# Altium footprint library eth_bridge_v2_pcb.PcbLib: 33 footprints (part 1 of 3)
Each footprint in its own frame and in the unit in brackets; x right, y up, seen from the top. Pads: shape width x height; smd on the part's side, far side on the other; paste and mask are expansions set on the pad; w line width, h text height; cw(c..) or ccw(c..) is an arc to the next point about the centre after c.
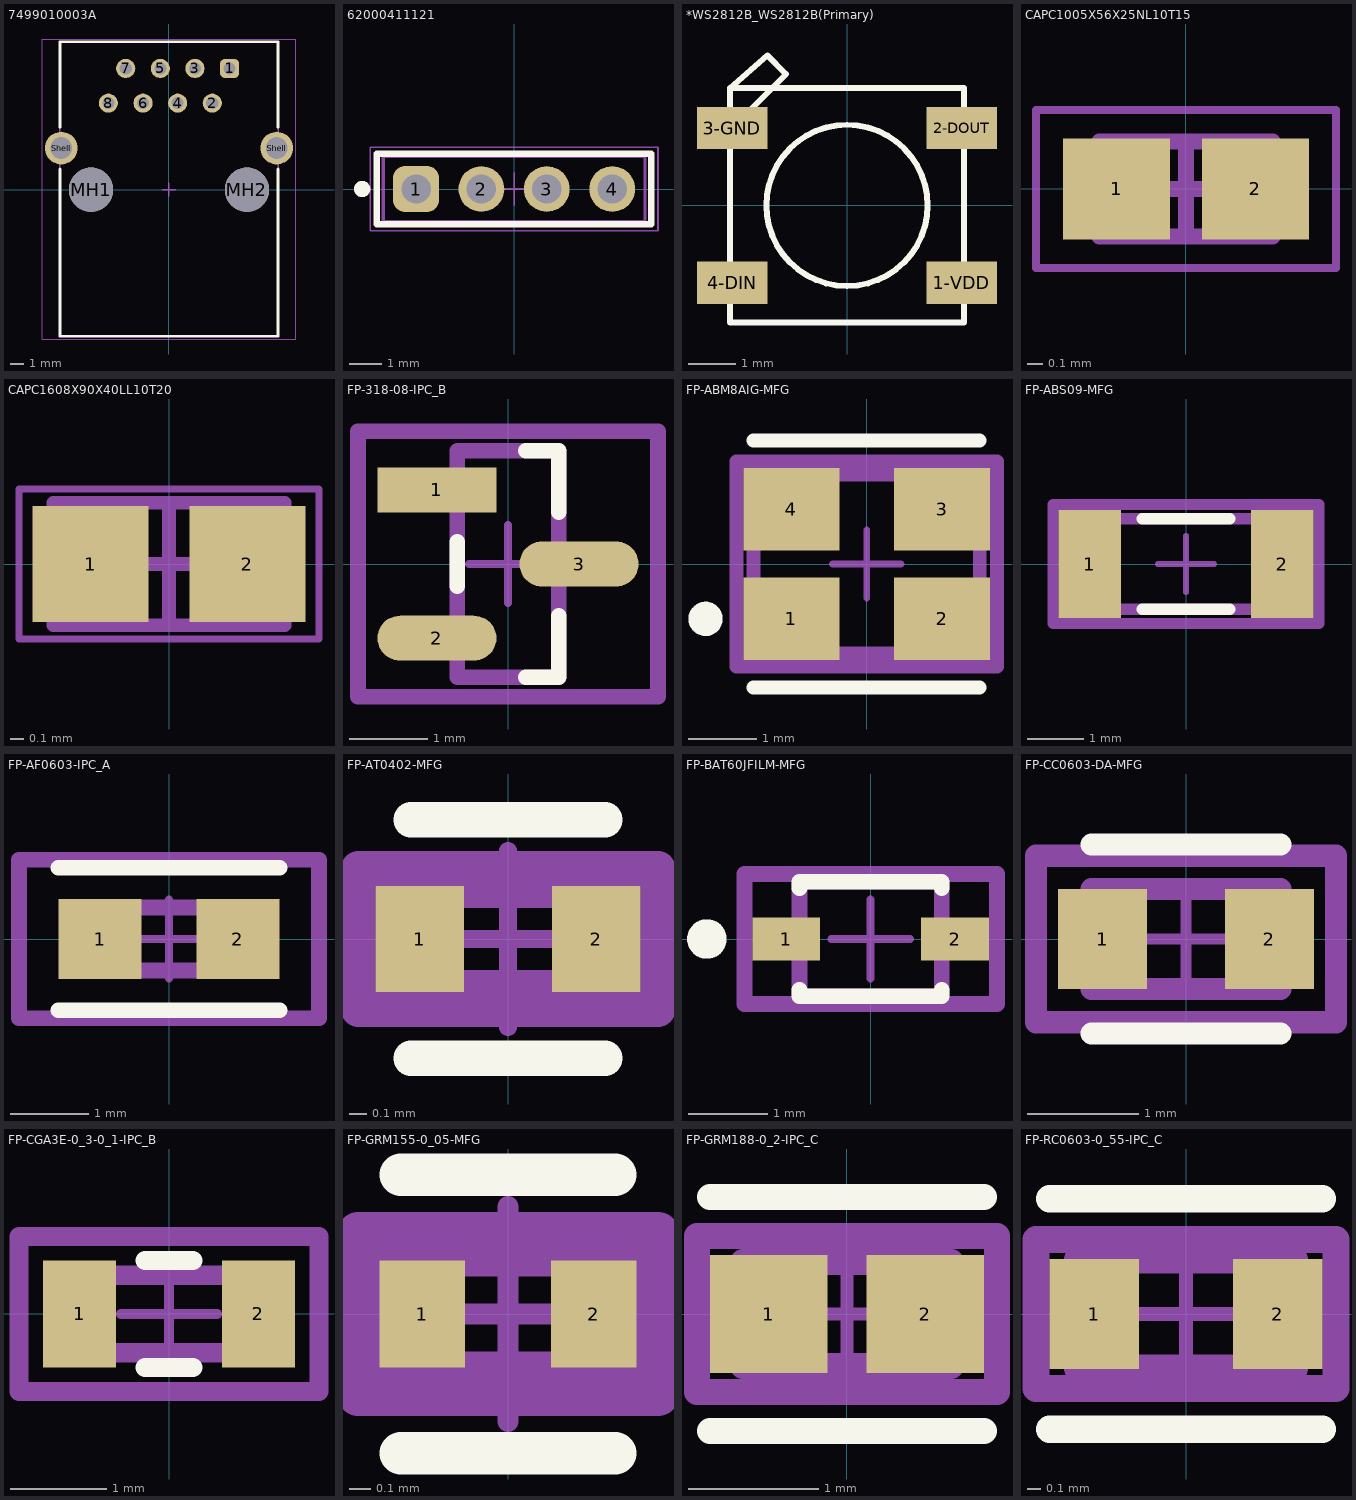
[diagram p0: the footprints below, top view; thin cyan lines are the x and y axes]

## 7499010003A [mm] "LAN Transformer, body 21.84x16.13mm"
height 13.74
pads (12):
  rrect50% 1.4x1.4 hole 0.89: 1(4.445,8.89)
  round 1.4 hole 0.89: 2(3.175,6.35) 3(1.905,8.89) 4(0.635,6.35) 5(-0.635,8.89) 6(-1.905,6.35) 7(-3.175,8.89) 8(-4.445,6.35)
  round 3.25 hole 3.25 unplated: MH1(-5.715,0) MH2(5.715,0)
  round 2.4 hole 1.6: Shell(-7.9,3.05) Shell(7.9,3.05)
Top Overlay:
  lines w0.2: -8,1.52 -8,-10.75 8,-10.75 8,1.52 ; -8,4.58 -8,10.85 8,10.85 8,4.58
Top Assembly:
  lines w0.1: -8,-10.75 -8,10.85 8,10.85 8,-10.75 -8,-10.75
Top Designator:
  text ".Designator" at -3.647,-0.357 h1
Top 3D Body:
  lines w0.1: -8,-10.75 -8,10.85 8,10.85 8,-10.75 -8,-10.75
Top Courtyard:
  lines w0.05: -9.3,-10.95 9.3,-10.95 9.3,11.05 -9.3,11.05 -9.3,-10.95
Top Component Center:
  lines w0.1: -0.5,0 0.5,0 ; 0,-0.5 0,0.5
3D body "7499010003A.stp": height 13.72, standoff -2.88, extent -8.1,-10.75 8.1,10.85

## 62000411121 [mm] "Pin Header, pitch 2.00 mm, THT, Vertical, single row, 4p"
height 6.35
pads (4):
  rrect50% 1.4x1.4 hole 0.9: 1(-3,0)
  round 1.4 hole 0.9: 2(-1,0) 3(1,0) 4(3,0)
Top Overlay:
  circle w0.25: c-4.65,0 r0.125
  lines w0.2: -4.2,-1.075 -4.2,1.075 4.2,1.075 4.2,-1.075 -4.2,-1.075
Top Component Outline:
  lines w0.1: -4,-1 -4,1 4,1 4,-1 -4,-1
Top Designator:
  text ".Designator" at -5.998,-0.4 h1.2
Top Courtyard:
  lines w0.05: -4.4,-1.275 -4.4,1.275 4.4,1.275 4.4,-1.275 -4.4,-1.275
Top Component Center:
  lines w0.05: -0.5,0 0.5,0 ; 0,-0.5 0,0.5
3D body "62000411121.stp": height 6.05, standoff -2.65, extent -4,-1 4,1

## *WS2812B_WS2812B(Primary) [mm]
pads (4):
  rect 1.5x0.9 smd: 1-VDD(2.45,-1.65) 2-DOUT(2.45,1.65) 3-GND(-2.45,1.65) 4-DIN(-2.45,-1.65)
Top Overlay:
  circle w0.127: c0,0 r1.72
  lines w0.127: -2.5,1.6 -2.5,-2.5 2.5,-2.5 2.5,2.5 -1.6,2.5 ; -2.5,1.6 -2.5,2.5 ; -2.5,1.6 -1.6,2.5 ; -2.5,2.5 -1.6,2.5 ; -2.5,2.5 -1.7,3.2 -1.3,2.8 -1.6,2.5
3D body "WS2812B--3DModel-STEP-55780.STEP": height 1.56, standoff -0.01, extent -2.7,-2.5 2.7,2.5

## CAPC1005X56X25NL10T15 [mm] "Chip Capacitor, 2-Leads, Body 1.00x0.50mm, IPC Medium Density"
height 0.56
pads (2):
  rect 0.68x0.64 smd: 1(-0.44,0) 2(0.44,0)
Top 3D Body:
  lines w0.1: -0.55,-0.3 0.55,-0.3 0.55,0.3 -0.55,0.3 -0.55,-0.3
Top Courtyard:
  lines w0.05: -0.95,-0.5 0.95,-0.5 0.95,0.5 -0.95,0.5 -0.95,-0.5
  lines w0.1: -0.3,0 0.3,0 ; 0,-0.3 0,0.3
3D body: height 0.56, standoff 0, extent 0.3,-0.3 0.55,0.3
3D body: height 0.56, standoff 0, extent -0.55,-0.3 -0.3,0.3
3D body: height 0.56, standoff 0, extent -0.3,-0.3 0.3,0.3

## CAPC1608X90X40LL10T20 [mm] "Chip Capacitor, 2-Leads, Body 1.7x0.9mm, IPC High Density"
height 0.9
pads (2):
  rect 0.85x0.85 smd: 1(-0.575,0) 2(0.575,0)
Top 3D Body:
  lines w0.1: -0.85,-0.45 -0.85,0.45 0.85,0.45 0.85,-0.45 -0.85,-0.45
Top Courtyard:
  lines w0.05: -1.1,-0.55 -1.1,0.55 1.1,0.55 1.1,-0.55 -1.1,-0.55
  lines w0.1: -0.45,0 0.45,0 ; 0,-0.45 0,0.45
3D body "CAPC1608X09L.step": height 0.9, standoff 0, extent -0.85,-0.45 0.85,0.45

## FP-318-08-IPC_B [mm]
pads (3):
  rect 1.524x0.578 smd paste+0 mask+0: 1(-0.91,0.95)
  rrect100% 1.524x0.578 smd paste+0 mask+0: 2(-0.91,-0.95) 3(0.91,0)
Top Overlay:
  lines w0.2: -0.65,-0.286 -0.65,0.286 ; 0.227,-1.45 0.65,-1.45 0.65,-0.664 ; 0.227,1.45 0.65,1.45 0.65,0.664
Top Assembly:
  lines w0.2: -1.922,-1.7 1.922,-1.7 1.922,1.7 -1.922,1.7 -1.922,-1.7
  text ".Designator" at 0,0 h1
Top 3D Body:
  lines w0.2: -0.65,-1.45 0.65,-1.45 0.65,1.45 -0.65,1.45 -0.65,-1.45
Top Courtyard:
  lines w0.2: -1.922,-1.7 1.922,-1.7 1.922,1.7 -1.922,1.7 -1.922,-1.7
Top Component Center:
  lines w0.1: -0.5,0 0.5,0 ; 0,-0.5 0,0.5
3D body "IC_ON_Semiconductor_NUD3112LT1G_eec.STEP": height 0.25, standoff 0, extent -1.922,-1.7 1.922,1.7

## FP-ABM8AIG-MFG [mm]
pads (4):
  rect 1.4x1.2 smd paste+0 mask+0: 1(-1.1,-0.8) 2(1.1,-0.8) 3(1.1,0.8) 4(-1.1,0.8)
Top Overlay:
  circle w0.25: c-2.35,-0.8 r0.125
  lines w0.2: -1.65,-1.8 1.65,-1.8 ; -1.65,1.8 1.65,1.8
Top Assembly:
  lines w0.2: -1.9,-1.5 -1.9,1.5 1.9,1.5 1.9,-1.5 -1.9,-1.5
  text ".Designator" at 0,0.188 h1
Top 3D Body:
  lines w0.2: -1.65,-1.3 -1.65,1.3 1.65,1.3 1.65,-1.3 -1.65,-1.3
Top Courtyard:
  lines w0.2: -1.9,-1.5 -1.9,1.5 1.9,1.5 1.9,-1.5 -1.9,-1.5
Top Component Center:
  lines w0.1: -0.5,0 0.5,0 ; 0,-0.5 0,0.5
3D body "Crys_Abracon_ABM8AIG-20_000MHZ-12-2Z-T3_eec.STEP": height 0.25, standoff 0, extent -1.9,-1.5 1.9,1.5

## FP-ABS09-MFG [mm]
pads (2):
  rect 1.1x1.9 smd paste+0 mask+0: 1(-1.7,0) 2(1.7,0)
Top Overlay:
  lines w0.2: -0.775,-0.8 0.775,-0.8 ; -0.775,0.8 0.775,0.8
Top Assembly:
  lines w0.2: -2.35,-1.05 2.35,-1.05 2.35,1.05 -2.35,1.05 -2.35,-1.05
  text ".Designator" at 0,0.188 h1
Top 3D Body:
  lines w0.2: -2.1,-0.8 2.1,-0.8 2.1,0.8 -2.1,0.8 -2.1,-0.8
Top Courtyard:
  lines w0.2: -2.35,-1.05 2.35,-1.05 2.35,1.05 -2.35,1.05 -2.35,-1.05
Top Component Center:
  lines w0.1: -0.5,0 0.5,0 ; 0,-0.5 0,0.5
3D body "Crys_Abracon_ABS09-32_768KHZ-7-T_eec.STEP": height 0.25, standoff 0, extent -2.35,-1.05 2.35,1.05

## FP-AF0603-IPC_A [mm]
pads (2):
  rect 1.059x1.012 smd paste+0 mask+0: 1(-0.877,0) 2(0.877,0)
Top Overlay:
  lines w0.2: -1.406,-0.906 1.406,-0.906 ; -1.406,0.906 1.406,0.906
Top Assembly:
  lines w0.2: -1.906,-1.006 -1.906,1.006 1.906,1.006 1.906,-1.006 -1.906,-1.006
  text ".Designator" at 0,0.188 h1
Top 3D Body:
  lines w0.2: -0.8,-0.4 -0.8,0.4 0.8,0.4 0.8,-0.4 -0.8,-0.4
Top Courtyard:
  lines w0.2: -1.906,-1.006 -1.906,1.006 1.906,1.006 1.906,-1.006 -1.906,-1.006
Top Component Center:
  lines w0.1: -0.5,0 0.5,0 ; 0,-0.5 0,0.5
3D body "Res_Yageo_AF0603FR-0710KL_eec.STEP": height 0.25, standoff 0, extent -1.906,-1.006 1.906,1.006

## FP-AT0402-MFG [mm]
pads (2):
  rect 0.5x0.6 smd paste+0 mask+0: 1(-0.5,0) 2(0.5,0)
Top Overlay:
  lines w0.2: -0.55,-0.675 0.55,-0.675 ; -0.55,0.675 0.55,0.675
Top Assembly:
  lines w0.2: -0.85,-0.4 0.85,-0.4 0.85,0.4 -0.85,0.4 -0.85,-0.4
  text ".Designator" at 0,0.188 h1
Top 3D Body:
  lines w0.2: -0.55,-0.275 0.55,-0.275 0.55,0.275 -0.55,0.275 -0.55,-0.275
Top Courtyard:
  lines w0.2: -0.85,-0.4 0.85,-0.4 0.85,0.4 -0.85,0.4 -0.85,-0.4
Top Component Center:
  lines w0.1: -0.5,0 0.5,0 ; 0,-0.5 0,0.5
3D body "Res_Yageo_AT0402BRB07100RL_eec.STEP": height 0.25, standoff 0, extent -0.85,-0.4 0.85,0.4

## FP-BAT60JFILM-MFG [mm]
pads (2):
  rect 0.86x0.54 smd paste+0 mask+0: 1(-1.07,0) 2(1.07,0)
Top Overlay:
  circle w0.25: c-2.075,0 r0.125
  lines w0.2: -0.9,-0.645 -0.9,-0.725 0.9,-0.725 0.9,-0.645 ; -0.9,0.645 -0.9,0.725 0.9,0.725 0.9,0.645
Top Assembly:
  lines w0.2: -1.6,-0.825 -1.6,0.825 1.6,0.825 1.6,-0.825 -1.6,-0.825
  text ".Designator" at 0,0.188 h1
Top 3D Body:
  lines w0.2: -0.9,-0.725 -0.9,0.725 0.9,0.725 0.9,-0.725 -0.9,-0.725
Top Courtyard:
  lines w0.2: -1.6,-0.825 -1.6,0.825 1.6,0.825 1.6,-0.825 -1.6,-0.825
Top Component Center:
  lines w0.1: -0.5,0 0.5,0 ; 0,-0.5 0,0.5
3D body "Diode_STMicroelectronics_BAT60JFILM_eec.STEP": height 0.25, standoff 0, extent -1.6,-0.825 1.6,0.825

## FP-CC0603-DA-MFG [mm]
pads (2):
  rect 0.8x0.9 smd paste+0 mask+0: 1(-0.75,0) 2(0.75,0)
Top Overlay:
  lines w0.2: -0.85,-0.85 0.85,-0.85 ; -0.85,0.85 0.85,0.85
Top Assembly:
  lines w0.2: -1.35,-0.75 -1.35,0.75 1.35,0.75 1.35,-0.75 -1.35,-0.75
  text ".Designator" at 0,0.188 h1
Top 3D Body:
  lines w0.2: -0.85,-0.45 -0.85,0.45 0.85,0.45 0.85,-0.45 -0.85,-0.45
Top Courtyard:
  lines w0.2: -1.35,-0.75 -1.35,0.75 1.35,0.75 1.35,-0.75 -1.35,-0.75
Top Component Center:
  lines w0.1: -0.5,0 0.5,0 ; 0,-0.5 0,0.5
3D body "Cap_YAGEO_CC0603KRX7R9BB271_eec.STEP": height 0.25, standoff 0, extent -1.35,-0.75 1.35,0.75

## FP-CGA3E-0_3-0_1-IPC_B [mm]
pads (2):
  rect 0.756x1.106 smd paste+0 mask+0: 1(-0.925,0) 2(0.925,0)
Top Overlay:
  lines w0.2: -0.247,-0.553 0.247,-0.553 ; -0.247,0.553 0.247,0.553
Top Assembly:
  lines w0.2: -1.553,-0.803 -1.553,0.803 1.553,0.803 1.553,-0.803 -1.553,-0.803
  text ".Designator" at 0,0.188 h1
Top 3D Body:
  lines w0.2: -0.8,-0.4 -0.8,0.4 0.8,0.4 0.8,-0.4 -0.8,-0.4
Top Courtyard:
  lines w0.2: -1.553,-0.803 -1.553,0.803 1.553,0.803 1.553,-0.803 -1.553,-0.803
Top Component Center:
  lines w0.1: -0.5,0 0.5,0 ; 0,-0.5 0,0.5
3D body "Cap_TDK_CGA3E3X7R1E334K080AB_eec.STEP": height 0.25, standoff 0, extent -1.553,-0.803 1.553,0.803

## FP-GRM155-0_05-MFG [mm]
pads (2):
  rect 0.4x0.5 smd paste+0 mask+0: 1(-0.4,0) 2(0.4,0)
Top Overlay:
  lines w0.2: -0.5,-0.65 0.5,-0.65 ; -0.5,0.65 0.5,0.65
Top Assembly:
  lines w0.2: -0.7,-0.375 0.7,-0.375 0.7,0.375 -0.7,0.375 -0.7,-0.375
  text ".Designator" at 0,0.188 h1
Top 3D Body:
  lines w0.2: -0.525,-0.275 0.525,-0.275 0.525,0.275 -0.525,0.275 -0.525,-0.275
Top Courtyard:
  lines w0.2: -0.7,-0.375 0.7,-0.375 0.7,0.375 -0.7,0.375 -0.7,-0.375
Top Component Center:
  lines w0.1: -0.5,0 0.5,0 ; 0,-0.5 0,0.5
3D body "Cap_Murata_GRM1552C1H271GA01J_eec.STEP": height 0.25, standoff 0, extent -0.7,-0.375 0.7,0.375

## FP-GRM188-0_2-IPC_C [mm]
pads (2):
  rect 0.905x0.906 smd paste+0 mask+0: 1(-0.601,0) 2(0.601,0)
Top Overlay:
  lines w0.2: -1.053,-0.9 1.053,-0.9 ; -1.053,0.9 1.053,0.9
Top Assembly:
  lines w0.2: -1.153,-0.6 1.153,-0.6 1.153,0.6 -1.153,0.6 -1.153,-0.6
  text ".Designator" at 0,0.188 h1
Top 3D Body:
  lines w0.2: -0.8,-0.4 0.8,-0.4 0.8,0.4 -0.8,0.4 -0.8,-0.4
Top Courtyard:
  lines w0.2: -1.153,-0.6 1.153,-0.6 1.153,0.6 -1.153,0.6 -1.153,-0.6
Top Component Center:
  lines w0.1: -0.5,0 0.5,0 ; 0,-0.5 0,0.5
3D body "Cap_Murata_GRM188C71C225KE11D_eec.STEP": height 0.25, standoff 0, extent -1.153,-0.6 1.153,0.6

## FP-RC0603-0_55-IPC_C [mm]
pads (2):
  rect 0.659x0.812 smd paste+0 mask+0: 1(-0.677,0) 2(0.677,0)
Top Overlay:
  lines w0.2: -1.006,-0.85 1.006,-0.85 ; -1.006,0.85 1.006,0.85
Top Assembly:
  lines w0.2: -1.106,-0.55 -1.106,0.55 1.106,0.55 1.106,-0.55 -1.106,-0.55
  text ".Designator" at 0,0.188 h1
Top 3D Body:
  lines w0.2: -0.8,-0.4 -0.8,0.4 0.8,0.4 0.8,-0.4 -0.8,-0.4
Top Courtyard:
  lines w0.2: -1.106,-0.55 -1.106,0.55 1.106,0.55 1.106,-0.55 -1.106,-0.55
Top Component Center:
  lines w0.1: -0.5,0 0.5,0 ; 0,-0.5 0,0.5
3D body "Res_Yageo_RC0603FR-07100KL_eec.STEP": height 0.25, standoff 0, extent -1.106,-0.55 1.106,0.55